# Altium footprint library DcsLib.PcbLib: 31 footprints (part 1 of 2)
Each footprint in its own frame and in the unit in brackets; x right, y up, seen from the top. Pads: shape width x height; smd on the part's side, far side on the other; paste and mask are expansions set on the pad; w line width, h text height; cw(c..) or ccw(c..) is an arc to the next point about the centre after c.
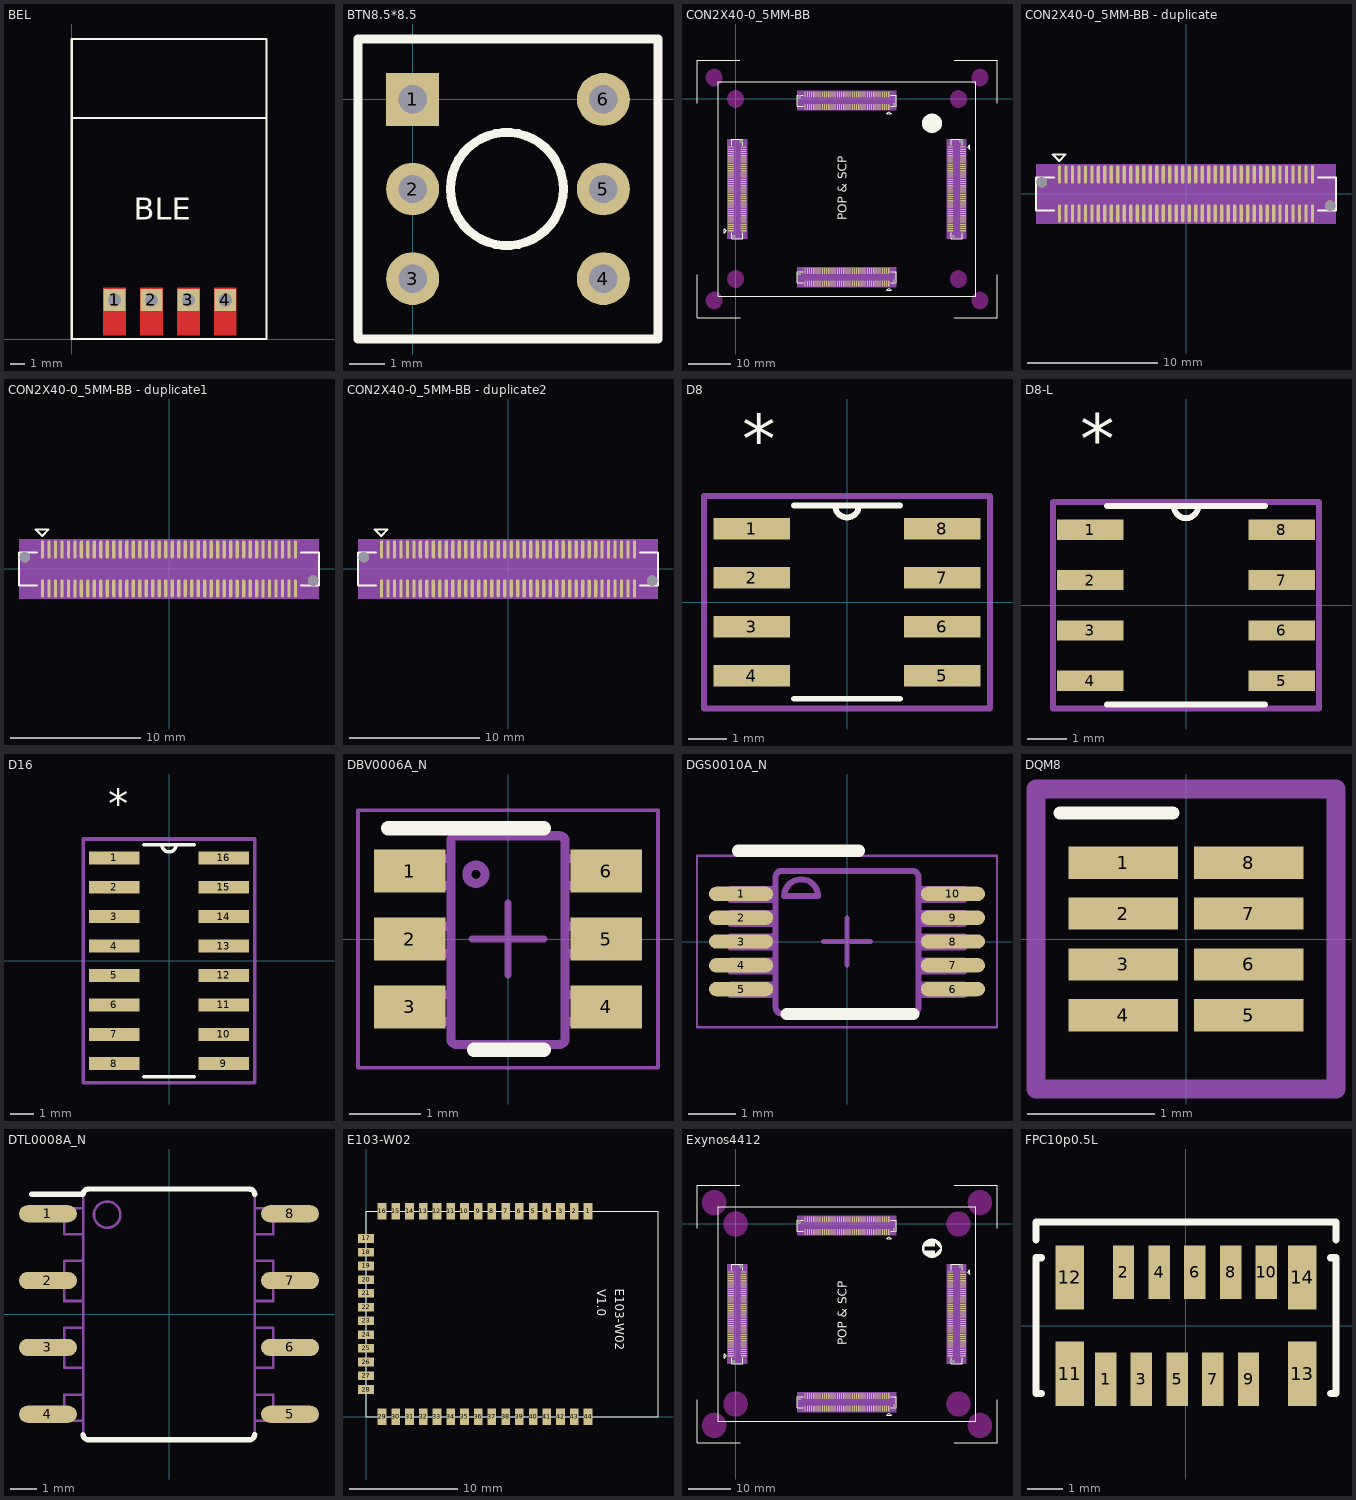
[diagram p0: the footprints below, top view; thin cyan lines are the x and y axes]

## BEL [mm]
height 2
pads (4):
  rect 1.5x1.5 hole 0.9: 1(2.946,2.692) 2(5.486,2.692) 3(8.026,2.692) 4(10.566,2.692)
Top Layer:
  rectangle: 2.159,0.254 3.734,3.556
  rectangle: 4.699,0.254 6.274,3.556
  rectangle: 7.239,0.254 8.814,3.556
  rectangle: 9.779,0.254 11.354,3.556
Top Overlay:
  lines w0.152: -0.025,15.215 13.411,15.215 ; 0,0 0,20.65 13.4,20.65 13.4,0 0,0
  text "BLE" at 4.267,8.204 h1.52
Top Solder:
  rectangle: 2.032,0.127 3.861,3.683
  rectangle: 4.572,0.127 6.401,3.683
  rectangle: 7.112,0.127 8.941,3.683
  rectangle: 9.652,0.127 11.481,3.683

## BTN8.5*8.5 [mm]
pads (6):
  rect 1.5x1.5 hole 0.8: 1(0,0)
  round 1.5 hole 0.8: 2(0,-2.54) 3(0,-5.08) 4(5.4,-5.08) 5(5.4,-2.54) 6(5.4,0)
Top Overlay:
  circle w0.254: c2.667,-2.54 r1.6
  lines w0.254: -1.55,-6.79 -1.55,1.71 6.95,1.71 6.95,-6.79 -1.55,-6.79

## CON2X40-0_5MM-BB [mil] "CON2X40-0_5MM-BB"
pads (328):
  oval 55x10 smd: 1(-43.6,-1210.41) 1(2090.26,-442.7) 2(74.52,-1210.41) 2(1972.14,-442.7) 3(-43.6,-1190.72) 3(2090.26,-462.39) 4(74.52,-1190.72) 4(1972.14,-462.39) 5(-43.6,-1171.04) 5(2090.26,-482.07) 6(74.52,-1171.04) 6(1972.14,-482.07) 7(-43.6,-1151.35) 7(2090.26,-501.76) 8(74.52,-1151.35) 8(1972.14,-501.76) 9(-43.6,-1131.67) 9(2090.26,-521.44) 10(74.52,-1131.67) 10(1972.14,-521.44) 11(-43.6,-1111.98) 11(2090.26,-541.13) 12(74.52,-1111.98) 12(1972.14,-541.13) 13(-43.6,-1092.3) 13(2090.26,-560.81) 14(74.52,-1092.3) 14(1972.14,-560.81) 15(-43.6,-1072.61) 15(2090.26,-580.5) 16(74.52,-1072.61) 16(1972.14,-580.5) 17(-43.6,-1052.94) 17(2090.26,-600.17) 18(74.52,-1052.94) 18(1972.14,-600.17) 19(-43.6,-1033.24) 19(2090.26,-619.87) 20(74.52,-1033.24) 20(1972.14,-619.87) 21(-43.6,-1013.57) 21(2090.26,-639.54) 22(74.52,-1013.57) 22(1972.14,-639.54) 23(-43.6,-993.87) 23(2090.26,-659.24) 24(74.52,-993.87) 24(1972.14,-659.24) 25(-43.6,-974.2) 25(2090.26,-678.91) 26(74.52,-974.2) 26(1972.14,-678.91) 27(-43.6,-954.5) 27(2090.26,-698.61) 28(74.52,-954.5) 28(1972.14,-698.61) 29(-43.6,-934.83) 29(2090.26,-718.28) 30(74.52,-934.83) 30(1972.14,-718.28) 31(-43.6,-915.13) 31(2090.26,-737.98) 32(74.52,-915.13) 32(1972.14,-737.98) 33(-43.6,-895.46) 33(2090.26,-757.65) 34(74.52,-895.46) 34(1972.14,-757.65) 35(-43.6,-875.76) 35(2090.26,-777.35) 36(74.52,-875.76) 36(1972.14,-777.35) 37(-43.6,-856.09) 37(2090.26,-797.02) 38(74.52,-856.09) 38(1972.14,-797.02) 39(-43.6,-836.39) 39(2090.26,-816.72) 40(74.52,-836.39) 40(1972.14,-816.72) 41(-43.6,-816.72) 41(2090.26,-836.39) 42(74.52,-816.72) 42(1972.14,-836.39) 43(-43.6,-797.02) 43(2090.26,-856.09) 44(74.52,-797.02) 44(1972.14,-856.09) 45(-43.6,-777.35) 45(2090.26,-875.76) 46(74.52,-777.35) 46(1972.14,-875.76) 47(-43.6,-757.65) 47(2090.26,-895.46) 48(74.52,-757.65) 48(1972.14,-895.46) 49(-43.6,-737.98) 49(2090.26,-915.13) 50(74.52,-737.98) 50(1972.14,-915.13) 51(-43.6,-718.28) 51(2090.26,-934.83) 52(74.52,-718.28) 52(1972.14,-934.83) 53(-43.6,-698.61) 53(2090.26,-954.5) 54(74.52,-698.61) 54(1972.14,-954.5) 55(-43.6,-678.91) 55(2090.26,-974.2) 56(74.52,-678.91) 56(1972.14,-974.2) 57(-43.6,-659.24) 57(2090.26,-993.87) 58(74.52,-659.24) 58(1972.14,-993.87) 59(-43.6,-639.54) 59(2090.26,-1013.57) 60(74.52,-639.54) 60(1972.14,-1013.57) 61(-43.6,-619.87) 61(2090.26,-1033.24) 62(74.52,-619.87) 62(1972.14,-1033.24) 63(-43.6,-600.17) 63(2090.26,-1052.94) 64(74.52,-600.17) 64(1972.14,-1052.94) 65(-43.6,-580.5) 65(2090.26,-1072.61) 66(74.52,-580.5) 66(1972.14,-1072.61) 67(-43.6,-560.81) 67(2090.26,-1092.3) 68(74.52,-560.81) 68(1972.14,-1092.3) 69(-43.6,-541.13) 69(2090.26,-1111.98) 70(74.52,-541.13) 70(1972.14,-1111.98) 71(-43.6,-521.44) 71(2090.26,-1131.67) 72(74.52,-521.44) 72(1972.14,-1131.67) 73(-43.6,-501.76) 73(2090.26,-1151.35) 74(74.52,-501.76) 74(1972.14,-1151.35) 75(-43.6,-482.07) 75(2090.26,-1171.04) 76(74.52,-482.07) 76(1972.14,-1171.04) 77(-43.6,-462.39) 77(2090.26,-1190.72) 78(74.52,-462.39) 78(1972.14,-1190.72) 79(-43.6,-442.7) 79(2090.26,-1210.41) 80(74.52,-442.7) 80(1972.14,-1210.41)
  oval 10x55 smd: 1(1407.19,-1696.64) 1(1407.19,-74.59) 2(1407.19,-1578.52) 2(1407.19,43.53) 3(1387.5,-1696.64) 3(1387.5,-74.59) 4(1387.5,-1578.52) 4(1387.5,43.53) 5(1367.82,-1696.64) 5(1367.82,-74.59) 6(1367.82,-1578.52) 6(1367.82,43.53) 7(1348.13,-1696.64) 7(1348.13,-74.59) 8(1348.13,-1578.52) 8(1348.13,43.53) 9(1328.45,-1696.64) 9(1328.45,-74.59) 10(1328.45,-1578.52) 10(1328.45,43.53) 11(1308.76,-1696.64) 11(1308.76,-74.59) 12(1308.76,-1578.52) 12(1308.76,43.53) 13(1289.08,-1696.64) 13(1289.08,-74.59) 14(1289.08,-1578.52) 14(1289.08,43.53) 15(1269.39,-1696.64) 15(1269.39,-74.59) 16(1269.39,-1578.52) 16(1269.39,43.53) 17(1249.71,-1696.64) 17(1249.71,-74.59) 18(1249.71,-1578.52) 18(1249.71,43.53) 19(1230.02,-1696.64) 19(1230.02,-74.59) 20(1230.02,-1578.52) 20(1230.02,43.53) 21(1210.34,-1696.64) 21(1210.34,-74.59) 22(1210.34,-1578.52) 22(1210.34,43.53) 23(1190.65,-1696.64) 23(1190.65,-74.59) 24(1190.65,-1578.52) 24(1190.65,43.53) 25(1170.97,-1696.64) 25(1170.97,-74.59) 26(1170.97,-1578.52) 26(1170.97,43.53) 27(1151.28,-1696.64) 27(1151.28,-74.59) 28(1151.28,-1578.52) 28(1151.28,43.53) 29(1131.6,-1696.64) 29(1131.6,-74.59) 30(1131.6,-1578.52) 30(1131.6,43.53) 31(1111.91,-1696.64) 31(1111.91,-74.59) 32(1111.91,-1578.52) 32(1111.91,43.53) 33(1092.23,-1696.64) 33(1092.23,-74.59) 34(1092.23,-1578.52) 34(1092.23,43.53) 35(1072.54,-1696.64) 35(1072.54,-74.59) 36(1072.54,-1578.52) 36(1072.54,43.53) 37(1052.86,-1696.64) 37(1052.86,-74.59) 38(1052.86,-1578.52) 38(1052.86,43.53) 39(1033.17,-1696.64) 39(1033.17,-74.59) 40(1033.17,-1578.52) 40(1033.17,43.53) 41(1013.49,-1696.64) 41(1013.49,-74.59) 42(1013.49,-1578.52) 42(1013.49,43.53) 43(993.8,-1696.64) 43(993.8,-74.59) 44(993.8,-1578.52) 44(993.8,43.53) 45(974.12,-1696.64) 45(974.12,-74.59) 46(974.12,-1578.52) 46(974.12,43.53) 47(954.43,-1696.64) 47(954.43,-74.59) 48(954.43,-1578.52) 48(954.43,43.53) 49(934.75,-1696.64) 49(934.75,-74.59) 50(934.75,-1578.52) 50(934.75,43.53) 51(915.06,-1696.64) 51(915.06,-74.59) 52(915.06,-1578.52) 52(915.06,43.53) 53(895.38,-1696.64) 53(895.38,-74.59) 54(895.38,-1578.52) 54(895.38,43.53) 55(875.69,-1696.64) 55(875.69,-74.59) 56(875.69,-1578.52) 56(875.69,43.53) 57(856.01,-1696.64) 57(856.01,-74.59) 58(856.01,-1578.52) 58(856.01,43.53) 59(836.32,-1696.64) 59(836.32,-74.59) 60(836.32,-1578.52) 60(836.32,43.53) 61(816.64,-1696.64) 61(816.64,-74.59) 62(816.64,-1578.52) 62(816.64,43.53) 63(796.95,-1696.64) 63(796.95,-74.59) 64(796.95,-1578.52) 64(796.95,43.53) 65(777.27,-1696.64) 65(777.27,-74.59) 66(777.27,-1578.52) 66(777.27,43.53) 67(757.58,-1696.64) 67(757.58,-74.59) 68(757.58,-1578.52) 68(757.58,43.53) 69(737.9,-1696.64) 69(737.9,-74.59) 70(737.9,-1578.52) 70(737.9,43.53) 71(718.21,-1696.64) 71(718.21,-74.59) 72(718.21,-1578.52) 72(718.21,43.53) 73(698.53,-1696.64) 73(698.53,-74.59) 74(698.53,-1578.52) 74(698.53,43.53) 75(678.84,-1696.64) 75(678.84,-74.59) 76(678.84,-1578.52) 76(678.84,43.53) 77(659.16,-1696.64) 77(659.16,-74.59) 78(659.16,-1578.52) 78(659.16,43.53) 79(639.47,-1696.64) 79(639.47,-74.59) 80(639.47,-1578.52) 80(639.47,43.53)
  round 32 / inner round 60 / far side round 32 hole 32: " "(-19.97,-1263.57) " "(50.88,-389.54) " "(586.32,-1602.15) " "(586.32,19.9) " "(1460.34,-1673.01) " "(1460.34,-50.96) " "(1995.78,-1263.57) " "(2066.63,-389.54)
Top Overlay:
  pour cut-out: 1834.35,-268.88 1834.35,-238.88 1739.35,-238.88 1739.35,-208.88 1834.35,-208.88 1834.35,-178.88 1879.35,-223.88
  region: 1821.89,-135.41 1838.75,-140.53 1854.29,-148.83 1867.91,-160.01 1879.08,-173.63 1887.39,-189.17 1892.5,-206.03 1894.23,-223.56 1892.5,-241.1 1887.39,-257.96 1879.08,-273.5 1867.91,-287.11 1854.29,-298.29 1838.75,-306.6 1821.89,-311.71 1804.35,-313.44 1786.82,-311.71 1769.96,-306.6 1754.42,-298.29 1740.8,-287.11 1729.62,-273.5 1721.32,-257.96 1716.21,-241.1 1714.48,-223.56 1716.21,-206.03 1721.32,-189.17 1729.62,-173.63 1740.8,-160.01 1754.42,-148.83 1769.96,-140.53 1786.82,-135.41 1804.35,-133.69 hole: 1834.35,-178.88 1834.35,-208.88 1739.35,-208.88 1739.35,-238.88 1834.35,-238.88 1834.35,-268.88 1879.35,-223.88
  lines w6: -354.33,-1614.18 -354.33,-2007.88 42.97,-2007.88 ; -354.33,-39.38 -354.33,354.32 39.37,354.32 ; -34.54,-1226.56 -34.54,-1281.56 65.46,-1281.56 65.46,-1226.56 ; -34.54,-426.56 -34.54,-371.56 65.46,-371.56 65.46,-426.56 ; 623.33,-1687.58 568.33,-1687.58 568.33,-1587.58 623.33,-1587.58 ; 623.33,-65.53 568.33,-65.53 568.33,34.47 623.33,34.47 ; 1423.33,-1687.58 1478.33,-1687.58 1478.33,-1587.58 1423.33,-1587.58 ; 1423.33,-65.53 1478.33,-65.53 1478.33,34.47 1423.33,34.47 ; 1981.2,-1226.56 1981.2,-1281.56 2081.2,-1281.56 2081.2,-1226.56 ; 1981.2,-426.56 1981.2,-371.56 2081.2,-371.56 2081.2,-426.56 ; 2007.87,-2007.88 2401.57,-2007.88 2401.57,-1614.18 ; 2007.87,354.32 2401.57,354.32 2401.57,-39.38 ; -157.48,-1811.02 2204.73,-1811.02 2204.73,157.48 -157.48,157.48 -157.48,-1811.02 ; -104.54,-1231.56 -104.54,-1191.56 -84.54,-1211.56 -104.54,-1231.56 ; 1388.33,-1757.58 1408.33,-1737.58 1428.33,-1757.58 1388.33,-1757.58 ; 1388.33,-135.53 1408.33,-115.53 1428.33,-135.53 1388.33,-135.53 ; 2131.2,-441.56 2151.2,-461.56 2151.2,-421.56 2131.2,-441.56
  text "POP & SCP" at 1021.02,-1115.88 h80
Keep-Out Layer:
  drawing of 16 lines, arcs and shapes, not listed
Mechanical 10:
  region: 105.46,-1281.56 -74.54,-1281.56 -74.54,-371.56 105.46,-371.56
  region: 1941.2,-371.56 2121.2,-371.56 2121.2,-1281.56 1941.2,-1281.56
  region: 1478.33,74.47 1478.33,-105.53 568.33,-105.53 568.33,74.47
  region: 1478.33,-1547.58 1478.33,-1727.58 568.33,-1727.58 568.33,-1547.58
Mechanical 11:
  lines w6: -33.75,-1279.32 -33.75,-373.8 64.67,-373.8 64.67,-1279.32 -33.75,-1279.32 ; 570.57,-1686.79 1476.09,-1686.79 1476.09,-1588.37 570.57,-1588.37 570.57,-1686.79 ; 570.57,-64.74 1476.09,-64.74 1476.09,33.68 570.57,33.68 570.57,-64.74 ; 1982,-1279.32 2080.41,-1279.32 2080.41,-373.8 1982,-373.8 1982,-1279.32

## CON2X40-0_5MM-BB - duplicate [mil] "CON2X40-0_5MM-BB"
pads (82):
  oval 10x55 smd: 1(-383.86,59.06) 2(-383.86,-59.06) 3(-364.17,59.06) 4(-364.17,-59.06) 5(-344.49,59.06) 6(-344.49,-59.06) 7(-324.8,59.06) 8(-324.8,-59.06) 9(-305.12,59.06) 10(-305.12,-59.06) 11(-285.43,59.06) 12(-285.43,-59.06) 13(-265.75,59.06) 14(-265.75,-59.06) 15(-246.06,59.06) 16(-246.06,-59.06) 17(-226.38,59.06) 18(-226.38,-59.06) 19(-206.69,59.06) 20(-206.69,-59.06) 21(-187.01,59.06) 22(-187.01,-59.06) 23(-167.32,59.06) 24(-167.32,-59.06) 25(-147.64,59.06) 26(-147.64,-59.06) 27(-127.95,59.06) 28(-127.95,-59.06) 29(-108.27,59.06) 30(-108.27,-59.06) 31(-88.58,59.06) 32(-88.58,-59.06) 33(-68.9,59.06) 34(-68.9,-59.06) 35(-49.21,59.06) 36(-49.21,-59.06) 37(-29.53,59.06) 38(-29.53,-59.06) 39(-9.84,59.06) 40(-9.84,-59.06) 41(9.84,59.06) 42(9.84,-59.06) 43(29.53,59.06) 44(29.53,-59.06) 45(49.21,59.06) 46(49.21,-59.06) 47(68.9,59.06) 48(68.9,-59.06) 49(88.58,59.06) 50(88.58,-59.06) 51(108.27,59.06) 52(108.27,-59.06) 53(127.95,59.06) 54(127.95,-59.06) 55(147.64,59.06) 56(147.64,-59.06) 57(167.32,59.06) 58(167.32,-59.06) 59(187.01,59.06) 60(187.01,-59.06) 61(206.69,59.06) 62(206.69,-59.06) 63(226.38,59.06) 64(226.38,-59.06) 65(246.06,59.06) 66(246.06,-59.06) 67(265.75,59.06) 68(265.75,-59.06) 69(285.43,59.06) 70(285.43,-59.06) 71(305.12,59.06) 72(305.12,-59.06) 73(324.8,59.06) 74(324.8,-59.06) 75(344.49,59.06) 76(344.49,-59.06) 77(364.17,59.06) 78(364.17,-59.06) 79(383.86,59.06) 80(383.86,-59.06)
  round 32 / inner round 60 / far side round 32 hole 32: " "(-437.01,35.43) " "(437.01,-35.43)
Top Overlay:
  lines w6: -400,-50 -455,-50 -455,50 -400,50 ; 400,-50 455,-50 455,50 400,50 ; -405,120 -365,120 -385,100 -405,120
Mechanical 9:
  text "75" at 364.49,159.06 h25
  text "76" at 364.49,-159.06 h25
  text "69" at 305.43,159.06 h25
  text "11" at -265.43,159.06 h25
  text "13" at -245.75,159.06 h25
  text "71" at 325.12,159.06 h25
  text "73" at 344.8,159.06 h25
  text "64" at 246.38,-159.06 h25
  text "65" at 266.06,159.06 h25
  text "62" at 226.69,-159.06 h25
  text "58" at 187.32,-159.06 h25
  text "60" at 207.01,-159.06 h25
  text "63" at 246.38,159.06 h25
  text "39" at 10.16,159.06 h25
  text "38" at -9.53,-159.06 h25
  text "48" at 88.9,-159.06 h25
  text "3" at -354.17,159.06 h25
  text "1" at -373.86,159.06 h25
  text "5" at -334.49,159.06 h25
  text "19" at -186.69,159.06 h25
  text "66" at 266.06,-159.06 h25
  text "21" at -167.01,159.06 h25
  text "20" at -186.69,-159.06 h25
  text "18" at -206.38,-159.06 h25
  text "46" at 69.21,-159.06 h25
  text "9" at -295.12,159.06 h25
  text "7" at -314.8,159.06 h25
  text "8" at -314.8,-159.06 h25
  text "6" at -334.49,-159.06 h25
  text "59" at 207.01,159.06 h25
  text "4" at -354.17,-159.06 h25
  text "2" at -373.86,-159.06 h25
  text "49" at 108.58,159.06 h25
  text "12" at -265.43,-159.06 h25
  text "10" at -285.12,-159.06 h25
  text "56" at 167.64,-159.06 h25
  text "54" at 147.95,-159.06 h25
  text "61" at 226.69,159.06 h25
  text "52" at 128.27,-159.06 h25
  text "55" at 167.64,159.06 h25
  text "16" at -226.06,-159.06 h25
  text "79" at 403.86,159.06 h25
  text "74" at 344.8,-159.06 h25
  text "80" at 403.86,-159.06 h25
  text "77" at 384.17,159.06 h25
  text "78" at 384.17,-159.06 h25
  text "47" at 88.9,159.06 h25
  text "14" at -245.75,-159.06 h25
  text "17" at -206.38,159.06 h25
  text "15" at -226.06,159.06 h25
  text "42" at 29.84,-159.06 h25
  text "32" at -68.58,-159.06 h25
  text "35" at -29.21,159.06 h25
  text "43" at 49.53,159.06 h25
  text "44" at 49.53,-159.06 h25
  text "33" at -48.9,159.06 h25
  text "45" at 69.21,159.06 h25
  text "41" at 29.84,159.06 h25
  text "37" at -9.53,159.06 h25
  text "36" at -29.21,-159.06 h25
  text "34" at -48.9,-159.06 h25
  text "40" at 10.16,-159.06 h25
  text "57" at 187.32,159.06 h25
  text "25" at -127.64,159.06 h25
  text "24" at -147.32,-159.06 h25
  text "27" at -107.95,159.06 h25
  text "26" at -127.64,-159.06 h25
  text "29" at -88.27,159.06 h25
  text "28" at -107.95,-159.06 h25
  text "30" at -88.27,-159.06 h25
  text "53" at 147.95,159.06 h25
  text "22" at -167.01,-159.06 h25
  text "70" at 305.43,-159.06 h25
  text "72" at 325.12,-159.06 h25
  text "67" at 285.75,159.06 h25
  text "51" at 128.27,159.06 h25
  text "31" at -68.58,159.06 h25
  text "23" at -147.32,159.06 h25
  text "50" at 108.58,-159.06 h25
  text "68" at 285.75,-159.06 h25
Mechanical 10:
  region: -455,-90 -455,90 455,90 455,-90
Mechanical 11:
  lines w6: -452.76,-49.21 452.76,-49.21 452.76,49.21 -452.76,49.21 -452.76,-49.21

## CON2X40-0_5MM-BB - duplicate1 [mil] "CON2X40-0_5MM-BB"
pads (82):
  oval 10x55 smd: 1(-383.86,59.06) 2(-383.86,-59.06) 3(-364.17,59.06) 4(-364.17,-59.06) 5(-344.49,59.06) 6(-344.49,-59.06) 7(-324.8,59.06) 8(-324.8,-59.06) 9(-305.12,59.06) 10(-305.12,-59.06) 11(-285.43,59.06) 12(-285.43,-59.06) 13(-265.75,59.06) 14(-265.75,-59.06) 15(-246.06,59.06) 16(-246.06,-59.06) 17(-226.38,59.06) 18(-226.38,-59.06) 19(-206.69,59.06) 20(-206.69,-59.06) 21(-187.01,59.06) 22(-187.01,-59.06) 23(-167.32,59.06) 24(-167.32,-59.06) 25(-147.64,59.06) 26(-147.64,-59.06) 27(-127.95,59.06) 28(-127.95,-59.06) 29(-108.27,59.06) 30(-108.27,-59.06) 31(-88.58,59.06) 32(-88.58,-59.06) 33(-68.9,59.06) 34(-68.9,-59.06) 35(-49.21,59.06) 36(-49.21,-59.06) 37(-29.53,59.06) 38(-29.53,-59.06) 39(-9.84,59.06) 40(-9.84,-59.06) 41(9.84,59.06) 42(9.84,-59.06) 43(29.53,59.06) 44(29.53,-59.06) 45(49.21,59.06) 46(49.21,-59.06) 47(68.9,59.06) 48(68.9,-59.06) 49(88.58,59.06) 50(88.58,-59.06) 51(108.27,59.06) 52(108.27,-59.06) 53(127.95,59.06) 54(127.95,-59.06) 55(147.64,59.06) 56(147.64,-59.06) 57(167.32,59.06) 58(167.32,-59.06) 59(187.01,59.06) 60(187.01,-59.06) 61(206.69,59.06) 62(206.69,-59.06) 63(226.38,59.06) 64(226.38,-59.06) 65(246.06,59.06) 66(246.06,-59.06) 67(265.75,59.06) 68(265.75,-59.06) 69(285.43,59.06) 70(285.43,-59.06) 71(305.12,59.06) 72(305.12,-59.06) 73(324.8,59.06) 74(324.8,-59.06) 75(344.49,59.06) 76(344.49,-59.06) 77(364.17,59.06) 78(364.17,-59.06) 79(383.86,59.06) 80(383.86,-59.06)
  round 32 / inner round 60 / far side round 32 hole 32: " "(-437.01,35.43) " "(437.01,-35.43)
Top Overlay:
  lines w6: -400,-50 -455,-50 -455,50 -400,50 ; 400,-50 455,-50 455,50 400,50 ; -405,120 -365,120 -385,100 -405,120
Mechanical 9:
  text "54" at 127.95,-179.06 h25
  text "5" at -344.49,149.06 h25
  text "55" at 147.64,139.06 h25
  text "1" at -383.86,149.06 h25
  text "2" at -383.86,-169.06 h25
  text "53" at 127.95,139.06 h25
  text "41" at 9.84,139.06 h25
  text "48" at 68.9,-179.06 h25
  text "56" at 147.64,-179.06 h25
  text "62" at 206.69,-179.06 h25
  text "65" at 246.06,139.06 h25
  text "52" at 108.27,-179.06 h25
  text "45" at 49.21,139.06 h25
  text "67" at 265.75,139.06 h25
  text "61" at 206.69,139.06 h25
  text "59" at 187.01,139.06 h25
  text "77" at 364.17,139.06 h25
  text "43" at 29.53,139.06 h25
  text "64" at 226.38,-179.06 h25
  text "75" at 344.49,139.06 h25
  text "58" at 167.32,-179.06 h25
  text "79" at 383.86,139.06 h25
  text "80" at 383.86,-179.06 h25
  text "22" at -187.01,-179.06 h25
  text "21" at -187.01,139.06 h25
  text "50" at 88.58,-179.06 h25
  text "23" at -167.32,139.06 h25
  text "70" at 285.43,-179.06 h25
  text "27" at -127.95,139.06 h25
  text "76" at 344.49,-179.06 h25
  text "42" at 9.84,-179.06 h25
  text "73" at 324.8,139.06 h25
  text "44" at 29.53,-179.06 h25
  text "28" at -127.95,-179.06 h25
  text "39" at -9.84,139.06 h25
  text "46" at 49.21,-179.06 h25
  text "78" at 364.17,-179.06 h25
  text "66" at 246.06,-179.06 h25
  text "63" at 226.38,139.06 h25
  text "69" at 285.43,139.06 h25
  text "26" at -147.64,-179.06 h25
  text "25" at -147.64,139.06 h25
  text "17" at -226.38,139.06 h25
  text "18" at -226.38,-179.06 h25
  text "12" at -285.43,-179.06 h25
  text "6" at -344.49,-169.06 h25
  text "11" at -285.43,139.06 h25
  text "57" at 167.32,139.06 h25
  text "47" at 68.9,139.06 h25
  text "60" at 187.01,-179.06 h25
  text "74" at 324.8,-179.06 h25
  text "71" at 305.12,139.06 h25
  text "20" at -206.69,-179.06 h25
  text "13" at -265.75,139.06 h25
  text "19" at -206.69,139.06 h25
  text "9" at -305.12,149.06 h25
  text "4" at -364.17,-169.06 h25
  text "3" at -364.17,149.06 h25
  text "35" at -49.21,139.06 h25
  text "36" at -49.21,-179.06 h25
  text "33" at -68.9,139.06 h25
  text "7" at -324.8,149.06 h25
  text "34" at -68.9,-179.06 h25
  text "72" at 305.12,-179.06 h25
  text "15" at -246.06,139.06 h25
  text "38" at -29.53,-179.06 h25
  text "31" at -88.58,139.06 h25
  text "37" at -29.53,139.06 h25
  text "32" at -88.58,-179.06 h25
  text "14" at -265.75,-179.06 h25
  text "29" at -108.27,139.06 h25
  text "68" at 265.75,-179.06 h25
  text "30" at -108.27,-179.06 h25
  text "10" at -305.12,-179.06 h25
  text "8" at -324.8,-169.06 h25
  text "16" at -246.06,-179.06 h25
  text "49" at 88.58,139.06 h25
  text "24" at -167.32,-179.06 h25
  text "40" at -9.84,-179.06 h25
  text "51" at 108.27,139.06 h25
Mechanical 10:
  region: -455,-90 -455,90 455,90 455,-90
Mechanical 11:
  lines w6: -452.76,-49.21 452.76,-49.21 452.76,49.21 -452.76,49.21 -452.76,-49.21

## CON2X40-0_5MM-BB - duplicate2 [mil] "CON2X40-0_5MM-BB"
pads (82):
  oval 10x55 smd: 1(-383.86,59.06) 2(-383.86,-59.06) 3(-364.17,59.06) 4(-364.17,-59.06) 5(-344.49,59.06) 6(-344.49,-59.06) 7(-324.8,59.06) 8(-324.8,-59.06) 9(-305.12,59.06) 10(-305.12,-59.06) 11(-285.43,59.06) 12(-285.43,-59.06) 13(-265.75,59.06) 14(-265.75,-59.06) 15(-246.06,59.06) 16(-246.06,-59.06) 17(-226.38,59.06) 18(-226.38,-59.06) 19(-206.69,59.06) 20(-206.69,-59.06) 21(-187.01,59.06) 22(-187.01,-59.06) 23(-167.32,59.06) 24(-167.32,-59.06) 25(-147.64,59.06) 26(-147.64,-59.06) 27(-127.95,59.06) 28(-127.95,-59.06) 29(-108.27,59.06) 30(-108.27,-59.06) 31(-88.58,59.06) 32(-88.58,-59.06) 33(-68.9,59.06) 34(-68.9,-59.06) 35(-49.21,59.06) 36(-49.21,-59.06) 37(-29.53,59.06) 38(-29.53,-59.06) 39(-9.84,59.06) 40(-9.84,-59.06) 41(9.84,59.06) 42(9.84,-59.06) 43(29.53,59.06) 44(29.53,-59.06) 45(49.21,59.06) 46(49.21,-59.06) 47(68.9,59.06) 48(68.9,-59.06) 49(88.58,59.06) 50(88.58,-59.06) 51(108.27,59.06) 52(108.27,-59.06) 53(127.95,59.06) 54(127.95,-59.06) 55(147.64,59.06) 56(147.64,-59.06) 57(167.32,59.06) 58(167.32,-59.06) 59(187.01,59.06) 60(187.01,-59.06) 61(206.69,59.06) 62(206.69,-59.06) 63(226.38,59.06) 64(226.38,-59.06) 65(246.06,59.06) 66(246.06,-59.06) 67(265.75,59.06) 68(265.75,-59.06) 69(285.43,59.06) 70(285.43,-59.06) 71(305.12,59.06) 72(305.12,-59.06) 73(324.8,59.06) 74(324.8,-59.06) 75(344.49,59.06) 76(344.49,-59.06) 77(364.17,59.06) 78(364.17,-59.06) 79(383.86,59.06) 80(383.86,-59.06)
  round 32 / inner round 60 / far side round 32 hole 32: " "(-437.01,35.43) " "(437.01,-35.43)
Top Overlay:
  lines w6: -400,-50 -455,-50 -455,50 -400,50 ; 400,-50 455,-50 455,50 400,50 ; -405,120 -365,120 -385,100 -405,120
Mechanical 9:
  text "1" at -383.86,169.06 h25
  text "2" at -383.86,-149.06 h25
  text "4" at -364.17,-149.06 h25
  text "3" at -364.17,169.06 h25
  text "5" at -344.49,169.06 h25
  text "6" at -344.49,-149.06 h25
  text "60" at 187.01,-139.06 h25
  text "69" at 285.43,179.06 h25
  text "48" at 68.9,-139.06 h25
  text "17" at -226.38,179.06 h25
  text "10" at -305.12,-139.06 h25
  text "14" at -265.75,-139.06 h25
  text "58" at 167.32,-139.06 h25
  text "56" at 147.64,-139.06 h25
  text "13" at -265.75,179.06 h25
  text "16" at -246.06,-139.06 h25
  text "11" at -285.43,179.06 h25
  text "19" at -206.69,179.06 h25
  text "43" at 29.53,179.06 h25
  text "41" at 9.84,179.06 h25
  text "37" at -29.53,179.06 h25
  text "40" at -9.84,-139.06 h25
  text "38" at -29.53,-139.06 h25
  text "42" at 9.84,-139.06 h25
  text "12" at -285.43,-139.06 h25
  text "76" at 344.49,-139.06 h25
  text "75" at 344.49,179.06 h25
  text "33" at -68.9,179.06 h25
  text "30" at -108.27,-139.06 h25
  text "59" at 187.01,179.06 h25
  text "28" at -127.95,-139.06 h25
  text "26" at -147.64,-139.06 h25
  text "25" at -147.64,179.06 h25
  text "23" at -167.32,179.06 h25
  text "27" at -127.95,179.06 h25
  text "31" at -88.58,179.06 h25
  text "47" at 68.9,179.06 h25
  text "46" at 49.21,-139.06 h25
  text "74" at 324.8,-139.06 h25
  text "22" at -187.01,-139.06 h25
  text "36" at -49.21,-139.06 h25
  text "35" at -49.21,179.06 h25
  text "52" at 108.27,-139.06 h25
  text "20" at -206.69,-139.06 h25
  text "78" at 364.17,-139.06 h25
  text "77" at 364.17,179.06 h25
  text "45" at 49.21,179.06 h25
  text "73" at 324.8,179.06 h25
  text "54" at 127.95,-139.06 h25
  text "44" at 29.53,-139.06 h25
  text "71" at 305.12,179.06 h25
  text "8" at -324.8,-149.06 h25
  text "15" at -246.06,179.06 h25
  text "18" at -226.38,-139.06 h25
  text "21" at -187.01,179.06 h25
  text "79" at 383.86,179.06 h25
  text "80" at 383.86,-139.06 h25
  text "29" at -108.27,179.06 h25
  text "24" at -167.32,-139.06 h25
  text "7" at -324.8,169.06 h25
  text "39" at -9.84,179.06 h25
  text "66" at 246.06,-139.06 h25
  text "67" at 265.75,179.06 h25
  text "51" at 108.27,179.06 h25
  text "32" at -88.58,-139.06 h25
  text "9" at -305.12,169.06 h25
  text "72" at 305.12,-139.06 h25
  text "55" at 147.64,179.06 h25
  text "57" at 167.32,179.06 h25
  text "68" at 265.75,-139.06 h25
  text "53" at 127.95,179.06 h25
  text "34" at -68.9,-139.06 h25
  text "65" at 246.06,179.06 h25
  text "49" at 88.58,179.06 h25
  text "61" at 206.69,179.06 h25
  text "50" at 88.58,-139.06 h25
  text "62" at 206.69,-139.06 h25
  text "70" at 285.43,-139.06 h25
  text "63" at 226.38,179.06 h25
  text "64" at 226.38,-139.06 h25
Mechanical 10:
  region: -455,-90 -455,90 455,90 455,-90
Mechanical 11:
  lines w6: -452.76,-49.21 452.76,-49.21 452.76,49.21 -452.76,49.21 -452.76,-49.21

## D8 [mil]
pads (8):
  rect 78x22 smd: 1(-97,75) 2(-97,25) 3(-97,-25) 4(-97,-75) 5(97,-75) 6(97,-25) 7(97,25) 8(97,75)
Top Overlay:
  lines w6: -54.08,-98.5 54.08,-98.5 ; -54.08,98.5 54.08,98.5 ; -12,98.5 ccw(c0,98.5) 12,98.5
  text "*" at -107,142 h50
Mechanical 13:
  lines w0: -12,98.5 ccw(c0,98.5) 12,98.5
  text "*" at -107,142 h50
Mechanical 15:
  lines w6: -146,-108.5 -146,108.5 146,108.5 146,-108.5 -146,-108.5
3D body "D8.stp": height 69.1, standoff 0, extent -122,-98.5 122,98.5

## D8-L [mil]
pads (8):
  rect 66x20 smd: 1(-95,75) 2(-95,25) 3(-95,-25) 4(-95,-75) 5(95,-75) 6(95,-25) 7(95,25) 8(95,75)
Top Overlay:
  lines w6: -78.5,-98.5 78.5,-98.5 ; -78.5,98.5 78.5,98.5 ; -12,98.5 ccw(c0,98.5) 12,98.5
  text "*" at -105,140 h50
Mechanical 13:
  lines w0: -12,98.5 ccw(c0,98.5) 12,98.5
  text "*" at -105,140 h50
Mechanical 15:
  lines w6: -132,-102.5 -132,102.5 132,102.5 132,-102.5 -132,-102.5
3D body "D8-L.stp": height 69.1, standoff 0, extent -122,-98.5 122,98.5

## D16 [mil]
pads (16):
  rect 86x22 smd: 1(-93,175) 2(-93,125) 3(-93,75) 4(-93,25) 5(-93,-25) 6(-93,-75) 7(-93,-125) 8(-93,-175) 9(93,-175) 10(93,-125) 11(93,-75) 12(93,-25) 13(93,25) 14(93,75) 15(93,125) 16(93,175)
Top Overlay:
  lines w6: -42.89,-197 42.89,-197 ; -42.89,197 42.89,197 ; -12,197 ccw(c0,197) 12,197
  text "*" at -103,242 h50
Mechanical 13:
  lines w0: -12,197 ccw(c0,197) 12,197
  text "*" at -103,242 h50
Mechanical 15:
  lines w6: -146,-207 146,-207 146,207 -146,207 -146,-207
3D body "D16.stp": height 69.1, standoff 0, extent -122,-197 122,197

## DBV0006A_N [mm]
pads (6):
  rect 1x0.6 smd paste+0 mask+0.051: 1(-1.375,0.95) 2(-1.375,0) 3(-1.375,-0.95) 4(1.375,-0.95) 5(1.375,0) 6(1.375,0.95)
Top Overlay:
  lines w0.2: -1.675,1.55 0.5,1.55 ; -0.475,-1.55 0.5,-1.55
Mechanical 13:
  lines w0.127: 0.724,-1.475 ccw(c0.723,-1.399) 0.8,-1.399 0.8,1.37 ccw(c0.723,1.37) 0.724,1.446 ; 0.723,-1.475 -0.724,-1.475 -0.725,-1.475 cw(c-0.724,-1.399) -0.801,-1.399 -0.801,1.37 cw(c-0.724,1.37) -0.725,1.446 -0.724,1.446 0.723,1.446 ; 0.723,-1.475 0.724,-1.475 ; 0.723,1.446 0.724,1.446 ; -1.423,-1.154 -1.423,-0.78 -1.206,-0.78 -1.113,-0.78 -1.081,-0.78 -0.828,-0.78 -0.801,-0.78 -0.801,-1.154 -0.828,-1.154 -1.081,-1.154 -1.113,-1.154 -1.206,-1.154 -1.423,-1.154 ; -1.423,-0.202 -1.423,0.173 -1.206,0.173 -1.113,0.173 -1.081,0.173 -0.828,0.173 -0.801,0.173 -0.801,-0.202 -0.828,-0.202 -1.081,-0.202 -1.113,-0.202 -1.206,-0.202 -1.423,-0.202 ; -1.423,0.751 -1.423,1.125 -1.206,1.125 -1.113,1.125 -1.081,1.125 -0.828,1.125 -0.801,1.125 -0.801,0.751 -0.828,0.751 -1.081,0.751 -1.113,0.751 -1.206,0.751 -1.423,0.751 ; -0.577,0.906 ccw(c-0.45,0.906) -0.323,0.906 ccw(c-0.45,0.906) -0.577,0.906 ; 0.8,-1.154 0.8,-0.78 0.827,-0.78 1.08,-0.78 1.112,-0.78 1.205,-0.78 1.422,-0.78 1.422,-1.154 1.205,-1.154 1.112,-1.154 1.08,-1.154 0.827,-1.154 0.8,-1.154 ; 0.8,-0.202 0.8,0.173 0.827,0.173 1.08,0.173 1.112,0.173 1.205,0.173 1.422,0.173 1.422,-0.202 1.205,-0.202 1.112,-0.202 1.08,-0.202 0.827,-0.202 0.8,-0.202 ; 0.8,0.751 0.8,1.125 0.827,1.125 1.08,1.125 1.112,1.125 1.205,1.125 1.422,1.125 1.422,0.751 1.205,0.751 1.112,0.751 1.08,0.751 0.827,0.751 0.8,0.751
Mechanical 15:
  lines w0.05: -2.1,-1.8 -2.1,1.8 2.1,1.8 2.1,-1.8 -2.1,-1.8
  lines w0.1: -0.5,0 0.5,0 ; 0,-0.5 0,0.5
3D body: height 0.25, standoff 0, extent -0.889,-1.524 0.889,1.55

## DGS0010A_N [mm]
pads (10):
  oval 1.35x0.3 smd paste+0 mask+0.051: 1(-2.225,1) 2(-2.225,0.5) 3(-2.225,0) 4(-2.225,-0.5) 5(-2.225,-1) 6(2.225,-1) 7(2.225,-0.5) 8(2.225,0) 9(2.225,0.5) 10(2.225,1)
Top Overlay:
  lines w0.254: -2.286,1.905 0.254,1.905 ; -1.27,-1.524 1.397,-1.524
Mechanical 13:
  lines w0.127: -2.45,-1.128 -2.45,-0.899 -2.21,-0.899 -2.09,-0.899 -2.087,-0.899 -1.784,-0.899 -1.498,-0.899 -1.498,-1.128 -1.784,-1.128 -2.087,-1.128 -2.09,-1.128 -2.21,-1.128 -2.45,-1.128 ; -2.45,-0.628 -2.45,-0.4 -2.21,-0.4 -2.09,-0.4 -2.087,-0.4 -1.784,-0.4 -1.498,-0.4 -1.498,-0.628 -1.784,-0.628 -2.087,-0.628 -2.09,-0.628 -2.21,-0.628 -2.45,-0.628 ; -2.45,-0.128 -2.45,0.1 -2.21,0.1 -2.09,0.1 -2.087,0.1 -1.784,0.1 -1.498,0.1 -1.498,-0.128 -1.784,-0.128 -2.087,-0.128 -2.09,-0.128 -2.21,-0.128 -2.45,-0.128 ; -2.45,0.372 -2.45,0.6 -2.21,0.6 -2.09,0.6 -2.087,0.6 -1.784,0.6 -1.498,0.6 -1.498,0.372 -1.784,0.372 -2.087,0.372 -2.09,0.372 -2.21,0.372 -2.45,0.372 ; -2.45,0.871 -2.45,1.1 -2.21,1.1 -2.09,1.1 -2.087,1.1 -1.784,1.1 -1.498,1.1 -1.498,0.871 -1.784,0.871 -2.087,0.871 -2.09,0.871 -2.21,0.871 -2.45,0.871 ; -1.497,-1.388 ccw(c-1.37,-1.386) -1.373,-1.513 -1.371,-1.513 1.373,-1.513 1.375,-1.513 ccw(c1.373,-1.386) 1.5,-1.388 1.5,-1.386 1.5,1.358 1.5,1.36 ccw(c1.373,1.358) 1.375,1.485 1.373,1.485 -1.371,1.485 -1.373,1.485 ccw(c-1.37,1.358) -1.497,1.36 -1.498,1.358 -1.498,-1.386 -1.497,-1.388 ; -1.32,0.951 cw(c-0.964,0.951) -0.609,0.951 -1.32,0.951 ; 1.5,-1.128 1.5,-0.899 1.786,-0.899 2.089,-0.899 2.093,-0.899 2.213,-0.899 2.452,-0.899 2.452,-1.128 2.213,-1.128 2.093,-1.128 2.089,-1.128 1.786,-1.128 1.5,-1.128 ; 1.5,-0.628 1.5,-0.4 1.786,-0.4 2.089,-0.4 2.093,-0.4 2.213,-0.4 2.452,-0.4 2.452,-0.628 2.213,-0.628 2.093,-0.628 2.089,-0.628 1.786,-0.628 1.5,-0.628 ; 1.5,-0.128 1.5,0.1 1.786,0.1 2.089,0.1 2.093,0.1 2.213,0.1 2.452,0.1 2.452,-0.128 2.213,-0.128 2.093,-0.128 2.089,-0.128 1.786,-0.128 1.5,-0.128 ; 1.5,0.372 1.5,0.6 1.786,0.6 2.089,0.6 2.093,0.6 2.213,0.6 2.452,0.6 2.452,0.372 2.213,0.372 2.093,0.372 2.089,0.372 1.786,0.372 1.5,0.372 ; 1.5,0.871 1.5,1.1 1.786,1.1 2.089,1.1 2.093,1.1 2.213,1.1 2.452,1.1 2.452,0.871 2.213,0.871 2.093,0.871 2.089,0.871 1.786,0.871 1.5,0.871
Mechanical 15:
  lines w0.05: -3.15,-1.8 3.15,-1.8 3.15,1.8 -3.15,1.8 -3.15,-1.8
  lines w0.1: -0.5,0 0.5,0 ; 0,-0.5 0,0.5
3D body: height 0.25, standoff 0, extent -1.524,-1.524 1.524,1.524

## DQM8 [mil]
pads (8):
  rect 34x10 smd: 1(-19.5,23.62) 2(-19.5,7.87) 3(-19.5,-7.87) 4(-19.5,-23.62) 5(19.5,-23.62) 6(19.5,-7.87) 7(19.5,7.87) 8(19.5,23.62)
Top Overlay:
  lines w4: -39,39 -4,39
Mechanical 15:
  lines w6: -46.5,-46.5 -46.5,46.5 46.5,46.5 46.5,-46.5 -46.5,-46.5
3D body "DQM8.stp": height 6.1, standoff 0, extent -26.5,-36.5 26.5,36.5

## DTL0008A_N [mm]
pads (8):
  oval 2.2x0.65 smd paste+0 mask+0.051: 1(-4.6,3.81) 2(-4.6,1.27) 3(-4.6,-1.27) 4(-4.6,-3.81) 5(4.6,-3.81) 6(4.6,-1.27) 7(4.6,1.27) 8(4.6,3.81)
Top Overlay:
  lines w0.2: -5.227,4.548 -3.265,4.548 -3.265,4.549 cw(c-3.065,4.548) -3.066,4.747 -3.065,4.748 -0.196,4.748 ; -3.265,-4.579 -3.265,-4.577 ; -3.265,-4.579 ccw(c-3.065,-4.577) -3.066,-4.777 -3.065,-4.777 -0.196,-4.777 ; 3.255,-4.579 3.255,-4.577 ; 3.255,-4.579 cw(c3.055,-4.577) 3.056,-4.777 3.055,-4.777 0.185,-4.777 ; 3.255,4.548 3.255,4.549 ccw(c3.055,4.548) 3.056,4.747 3.055,4.748 0.185,4.748 ; -0.196,-4.777 0.185,-4.777 ; -0.196,-4.777 0.185,-4.777 ; -0.196,4.748 0.185,4.748 ; -0.196,4.748 0.185,4.748
Mechanical 13:
  drawing of 175 lines, arcs and shapes, not listed
3D body: height 0.25, standoff 0, extent -3.302,-4.699 3.302,4.748

## E103-W02 [mm]
pads (44):
  rect 0.8x1.5 smd: 1(20.525,19) 2(19.255,19) 3(17.985,19) 4(16.715,19) 5(15.445,19) 6(14.175,19) 7(12.905,19) 8(11.635,19) 9(10.365,19) 10(9.095,19) 11(7.825,19) 12(6.555,19) 13(5.285,19) 14(4.015,19) 15(2.745,19) 16(1.475,19) 29(1.475,0) 30(2.745,0) 31(4.015,0) 32(5.285,0) 33(6.555,0) 34(7.825,0) 35(9.095,0) 36(10.365,0) 37(11.635,0) 38(12.905,0) 39(14.175,0) 40(15.445,0) 41(16.715,0) 42(17.985,0) 43(19.255,0) 44(20.525,0)
  rect 1.5x0.8 smd: 17(0,16.485) 18(0,15.215) 19(0,13.945) 20(0,12.675) 21(0,11.405) 22(0,10.135) 23(0,8.865) 24(0,7.595) 25(0,6.325) 26(0,5.055) 27(0,3.785) 28(0,2.515)
Top Overlay:
  lines w0.1: 0,0 0,19 27,19 27,0 0,0
  text "V1.0" at 21.38,11.79 h0.8
  text "E103-W02" at 23.06,11.84 h0.8

## Exynos4412 [mil]
pads (328):
  round 32 / inner round 60 / far side round 32 hole 32: " "(-19.97,-1263.57) " "(50.88,-389.54) " "(586.32,-1602.15) " "(586.32,19.9) " "(1460.34,-1673.01) " "(1460.34,-50.96) " "(1995.78,-1263.57) " "(2066.63,-389.54)
  oval 55x10 smd: A1(-43.6,-1210.41) A2(74.52,-1210.41) A3(-43.6,-1190.72) A4(74.52,-1190.72) A5(-43.6,-1171.04) A6(74.52,-1171.04) A7(-43.6,-1151.35) A8(74.52,-1151.35) A9(-43.6,-1131.67) A10(74.52,-1131.67) A11(-43.6,-1111.98) A12(74.52,-1111.98) A13(-43.6,-1092.3) A14(74.52,-1092.3) A15(-43.6,-1072.61) A16(74.52,-1072.61) A17(-43.6,-1052.94) A18(74.52,-1052.94) A19(-43.6,-1033.24) A20(74.52,-1033.24) A21(-43.6,-1013.57) A22(74.52,-1013.57) A23(-43.6,-993.87) A24(74.52,-993.87) A25(-43.6,-974.2) A26(74.52,-974.2) A27(-43.6,-954.5) A28(74.52,-954.5) A29(-43.6,-934.83) A30(74.52,-934.83) A31(-43.6,-915.13) A32(74.52,-915.13) A33(-43.6,-895.46) A34(74.52,-895.46) A35(-43.6,-875.76) A36(74.52,-875.76) A37(-43.6,-856.09) A38(74.52,-856.09) A39(-43.6,-836.39) A40(74.52,-836.39) A41(-43.6,-816.72) A42(74.52,-816.72) A43(-43.6,-797.02) A44(74.52,-797.02) A45(-43.6,-777.35) A46(74.52,-777.35) A47(-43.6,-757.65) A48(74.52,-757.65) A49(-43.6,-737.98) A50(74.52,-737.98) A51(-43.6,-718.28) A52(74.52,-718.28) A53(-43.6,-698.61) A54(74.52,-698.61) A55(-43.6,-678.91) A56(74.52,-678.91) A57(-43.6,-659.24) A58(74.52,-659.24) A59(-43.6,-639.54) A60(74.52,-639.54) A61(-43.6,-619.87) A62(74.52,-619.87) A63(-43.6,-600.17) A64(74.52,-600.17) A65(-43.6,-580.5) A66(74.52,-580.5) A67(-43.6,-560.81) A68(74.52,-560.81) A69(-43.6,-541.13) A70(74.52,-541.13) A71(-43.6,-521.44) A72(74.52,-521.44) A73(-43.6,-501.76) A74(74.52,-501.76) A75(-43.6,-482.07) A76(74.52,-482.07) A77(-43.6,-462.39) A78(74.52,-462.39) A79(-43.6,-442.7) A80(74.52,-442.7) B1(2090.26,-442.7) B2(1972.14,-442.7) B3(2090.26,-462.39) B4(1972.14,-462.39) B5(2090.26,-482.07) B6(1972.14,-482.07) B7(2090.26,-501.76) B8(1972.14,-501.76) B9(2090.26,-521.44) B10(1972.14,-521.44) B11(2090.26,-541.13) B12(1972.14,-541.13) B13(2090.26,-560.81) B14(1972.14,-560.81) B15(2090.26,-580.5) B16(1972.14,-580.5) B17(2090.26,-600.17) B18(1972.14,-600.17) B19(2090.26,-619.87) B20(1972.14,-619.87) B21(2090.26,-639.54) B22(1972.14,-639.54) B23(2090.26,-659.24) B24(1972.14,-659.24) B25(2090.26,-678.91) B26(1972.14,-678.91) B27(2090.26,-698.61) B28(1972.14,-698.61) B29(2090.26,-718.28) B30(1972.14,-718.28) B31(2090.26,-737.98) B32(1972.14,-737.98) B33(2090.26,-757.65) B34(1972.14,-757.65) B35(2090.26,-777.35) B36(1972.14,-777.35) B37(2090.26,-797.02) B38(1972.14,-797.02) B39(2090.26,-816.72) B40(1972.14,-816.72) B41(2090.26,-836.39) B42(1972.14,-836.39) B43(2090.26,-856.09) B44(1972.14,-856.09) B45(2090.26,-875.76) B46(1972.14,-875.76) B47(2090.26,-895.46) B48(1972.14,-895.46) B49(2090.26,-915.13) B50(1972.14,-915.13) B51(2090.26,-934.83) B52(1972.14,-934.83) B53(2090.26,-954.5) B54(1972.14,-954.5) B55(2090.26,-974.2) B56(1972.14,-974.2) B57(2090.26,-993.87) B58(1972.14,-993.87) B59(2090.26,-1013.57) B60(1972.14,-1013.57) B61(2090.26,-1033.24) B62(1972.14,-1033.24) B63(2090.26,-1052.94) B64(1972.14,-1052.94) B65(2090.26,-1072.61) B66(1972.14,-1072.61) B67(2090.26,-1092.3) B68(1972.14,-1092.3) B69(2090.26,-1111.98) B70(1972.14,-1111.98) B71(2090.26,-1131.67) B72(1972.14,-1131.67) B73(2090.26,-1151.35) B74(1972.14,-1151.35) B75(2090.26,-1171.04) B76(1972.14,-1171.04) B77(2090.26,-1190.72) B78(1972.14,-1190.72) B79(2090.26,-1210.41) B80(1972.14,-1210.41)
  oval 10x55 smd: C1(1407.19,-74.59) C2(1407.19,43.53) C3(1387.5,-74.59) C4(1387.5,43.53) C5(1367.82,-74.59) C6(1367.82,43.53) C7(1348.13,-74.59) C8(1348.13,43.53) C9(1328.45,-74.59) C10(1328.45,43.53) C11(1308.76,-74.59) C12(1308.76,43.53) C13(1289.08,-74.59) C14(1289.08,43.53) C15(1269.39,-74.59) C16(1269.39,43.53) C17(1249.71,-74.59) C18(1249.71,43.53) C19(1230.02,-74.59) C20(1230.02,43.53) C21(1210.34,-74.59) C22(1210.34,43.53) C23(1190.65,-74.59) C24(1190.65,43.53) C25(1170.97,-74.59) C26(1170.97,43.53) C27(1151.28,-74.59) C28(1151.28,43.53) C29(1131.6,-74.59) C30(1131.6,43.53) C31(1111.91,-74.59) C32(1111.91,43.53) C33(1092.23,-74.59) C34(1092.23,43.53) C35(1072.54,-74.59) C36(1072.54,43.53) C37(1052.86,-74.59) C38(1052.86,43.53) C39(1033.17,-74.59) C40(1033.17,43.53) C41(1013.49,-74.59) C42(1013.49,43.53) C43(993.8,-74.59) C44(993.8,43.53) C45(974.12,-74.59) C46(974.12,43.53) C47(954.43,-74.59) C48(954.43,43.53) C49(934.75,-74.59) C50(934.75,43.53) C51(915.06,-74.59) C52(915.06,43.53) C53(895.38,-74.59) C54(895.38,43.53) C55(875.69,-74.59) C56(875.69,43.53) C57(856.01,-74.59) C58(856.01,43.53) C59(836.32,-74.59) C60(836.32,43.53) C61(816.64,-74.59) C62(816.64,43.53) C63(796.95,-74.59) C64(796.95,43.53) C65(777.27,-74.59) C66(777.27,43.53) C67(757.58,-74.59) C68(757.58,43.53) C69(737.9,-74.59) C70(737.9,43.53) C71(718.21,-74.59) C72(718.21,43.53) C73(698.53,-74.59) C74(698.53,43.53) C75(678.84,-74.59) C76(678.84,43.53) C77(659.16,-74.59) C78(659.16,43.53) C79(639.47,-74.59) C80(639.47,43.53) D1(1407.19,-1696.64) D2(1407.19,-1578.52) D3(1387.5,-1696.64) D4(1387.5,-1578.52) D5(1367.82,-1696.64) D6(1367.82,-1578.52) D7(1348.13,-1696.64) D8(1348.13,-1578.52) D9(1328.45,-1696.64) D10(1328.45,-1578.52) D11(1308.76,-1696.64) D12(1308.76,-1578.52) D13(1289.08,-1696.64) D14(1289.08,-1578.52) D15(1269.39,-1696.64) D16(1269.39,-1578.52) D17(1249.71,-1696.64) D18(1249.71,-1578.52) D19(1230.02,-1696.64) D20(1230.02,-1578.52) D21(1210.34,-1696.64) D22(1210.34,-1578.52) D23(1190.65,-1696.64) D24(1190.65,-1578.52) D25(1170.97,-1696.64) D26(1170.97,-1578.52) D27(1151.28,-1696.64) D28(1151.28,-1578.52) D29(1131.6,-1696.64) D30(1131.6,-1578.52) D31(1111.91,-1696.64) D32(1111.91,-1578.52) D33(1092.23,-1696.64) D34(1092.23,-1578.52) D35(1072.54,-1696.64) D36(1072.54,-1578.52) D37(1052.86,-1696.64) D38(1052.86,-1578.52) D39(1033.17,-1696.64) D40(1033.17,-1578.52) D41(1013.49,-1696.64) D42(1013.49,-1578.52) D43(993.8,-1696.64) D44(993.8,-1578.52) D45(974.12,-1696.64) D46(974.12,-1578.52) D47(954.43,-1696.64) D48(954.43,-1578.52) D49(934.75,-1696.64) D50(934.75,-1578.52) D51(915.06,-1696.64) D52(915.06,-1578.52) D53(895.38,-1696.64) D54(895.38,-1578.52) D55(875.69,-1696.64) D56(875.69,-1578.52) D57(856.01,-1696.64) D58(856.01,-1578.52) D59(836.32,-1696.64) D60(836.32,-1578.52) D61(816.64,-1696.64) D62(816.64,-1578.52) D63(796.95,-1696.64) D64(796.95,-1578.52) D65(777.27,-1696.64) D66(777.27,-1578.52) D67(757.58,-1696.64) D68(757.58,-1578.52) D69(737.9,-1696.64) D70(737.9,-1578.52) D71(718.21,-1696.64) D72(718.21,-1578.52) D73(698.53,-1696.64) D74(698.53,-1578.52) D75(678.84,-1696.64) D76(678.84,-1578.52) D77(659.16,-1696.64) D78(659.16,-1578.52) D79(639.47,-1696.64) D80(639.47,-1578.52)
Top Overlay:
  region: 1821.89,-135.41 1838.75,-140.53 1854.29,-148.83 1867.91,-160.01 1879.08,-173.63 1887.39,-189.17 1892.5,-206.03 1894.23,-223.56 1892.5,-241.1 1887.39,-257.96 1879.08,-273.5 1867.91,-287.11 1854.29,-298.29 1838.75,-306.6 1821.89,-311.71 1804.35,-313.44 1786.82,-311.71 1769.96,-306.6 1754.42,-298.29 1740.8,-287.11 1729.62,-273.5 1721.32,-257.96 1716.21,-241.1 1714.48,-223.56 1716.21,-206.03 1721.32,-189.17 1729.62,-173.63 1740.8,-160.01 1754.42,-148.83 1769.96,-140.53 1786.82,-135.41 1804.35,-133.69 hole: 1834.35,-178.88 1834.35,-208.88 1739.35,-208.88 1739.35,-238.88 1834.35,-238.88 1834.35,-268.88 1879.35,-223.88
  lines w6: -354.33,-1614.18 -354.33,-2007.88 42.97,-2007.88 ; -354.33,-39.38 -354.33,354.32 39.37,354.32 ; -34.54,-1226.56 -34.54,-1281.56 65.46,-1281.56 65.46,-1226.56 ; -34.54,-426.56 -34.54,-371.56 65.46,-371.56 65.46,-426.56 ; 623.33,-1687.58 568.33,-1687.58 568.33,-1587.58 623.33,-1587.58 ; 623.33,-65.53 568.33,-65.53 568.33,34.47 623.33,34.47 ; 1423.33,-1687.58 1478.33,-1687.58 1478.33,-1587.58 1423.33,-1587.58 ; 1423.33,-65.53 1478.33,-65.53 1478.33,34.47 1423.33,34.47 ; 1981.2,-1226.56 1981.2,-1281.56 2081.2,-1281.56 2081.2,-1226.56 ; 1981.2,-426.56 1981.2,-371.56 2081.2,-371.56 2081.2,-426.56 ; 2007.87,-2007.88 2401.57,-2007.88 2401.57,-1614.18 ; 2007.87,354.32 2401.57,354.32 2401.57,-39.38 ; -157.48,-1811.02 2204.73,-1811.02 2204.73,157.48 -157.48,157.48 -157.48,-1811.02 ; -104.54,-1231.56 -104.54,-1191.56 -84.54,-1211.56 -104.54,-1231.56 ; 1388.33,-1757.58 1408.33,-1737.58 1428.33,-1757.58 1388.33,-1757.58 ; 1388.33,-135.53 1408.33,-115.53 1428.33,-135.53 1388.33,-135.53 ; 2131.2,-441.56 2151.2,-461.56 2151.2,-421.56 2131.2,-441.56
  text "POP & SCP" at 1021.02,-1115.88 h80
Keep-Out Layer:
  drawing of 8 lines, arcs and shapes, not listed
Keep-Out Layer:
  circle w10: c-196.85,196.85 r110
  circle w10: c0,0 r110
  circle w10: c2047.36,0 r110
  circle w10: c2244.1,196.85 r110
  circle w10: c2244.1,-1850.39 r110
  circle w10: c2047.26,-1653.54 r110
  circle w10: c-196.85,-1850.39 r110
  circle w10: c0,-1653.54 r110
Mechanical 10:
  region: 1941.2,-371.56 2121.2,-371.56 2121.2,-1281.56 1941.2,-1281.56
  region: 1478.33,74.47 1478.33,-105.53 568.33,-105.53 568.33,74.47
  region: 1478.33,-1547.58 1478.33,-1727.58 568.33,-1727.58 568.33,-1547.58
  region: 105.46,-1281.56 -74.54,-1281.56 -74.54,-371.56 105.46,-371.56
Mechanical 11:
  lines w6: -33.75,-1279.32 -33.75,-373.8 64.67,-373.8 64.67,-1279.32 -33.75,-1279.32 ; 570.57,-1686.79 1476.09,-1686.79 1476.09,-1588.37 570.57,-1588.37 570.57,-1686.79 ; 570.57,-64.74 1476.09,-64.74 1476.09,33.68 570.57,33.68 570.57,-64.74 ; 1982,-1279.32 2080.41,-1279.32 2080.41,-373.8 1982,-373.8 1982,-1279.32

## FPC10p0.5L [mm] "Connector; FH12 Series; 10 Position; 0.5mm Spaced Vertical Mounting"
height 4.85
pads (14):
  rect 0.6x1.5 smd: 1(-2.25,-1.5) 2(-1.75,1.5) 3(-1.25,-1.5) 4(-0.75,1.5) 5(-0.25,-1.5) 6(0.25,1.5) 7(0.75,-1.5) 8(1.25,1.5) 9(1.75,-1.5) 10(2.25,1.5)
  rect 0.8x1.8 smd: 11(-3.25,-1.35) 12(-3.25,1.35) 13(3.25,-1.35) 14(3.25,1.35)
Top Overlay:
  lines w0.2: -4.2,2.4 -4.2,2.9 4.2,2.9 4.2,2.4 ; -4.05,-1.9 -4.2,-1.9 -4.2,1.9 -4.05,1.9 ; 4.05,-1.9 4.2,-1.9 4.2,1.9 4.05,1.9